# Altium schematic symbol library Zynq-Video-Board-Rev-1.2.SCHLIB: 69 symbols
Pins are listed as number, name and electrical type; pins without a type are passive.

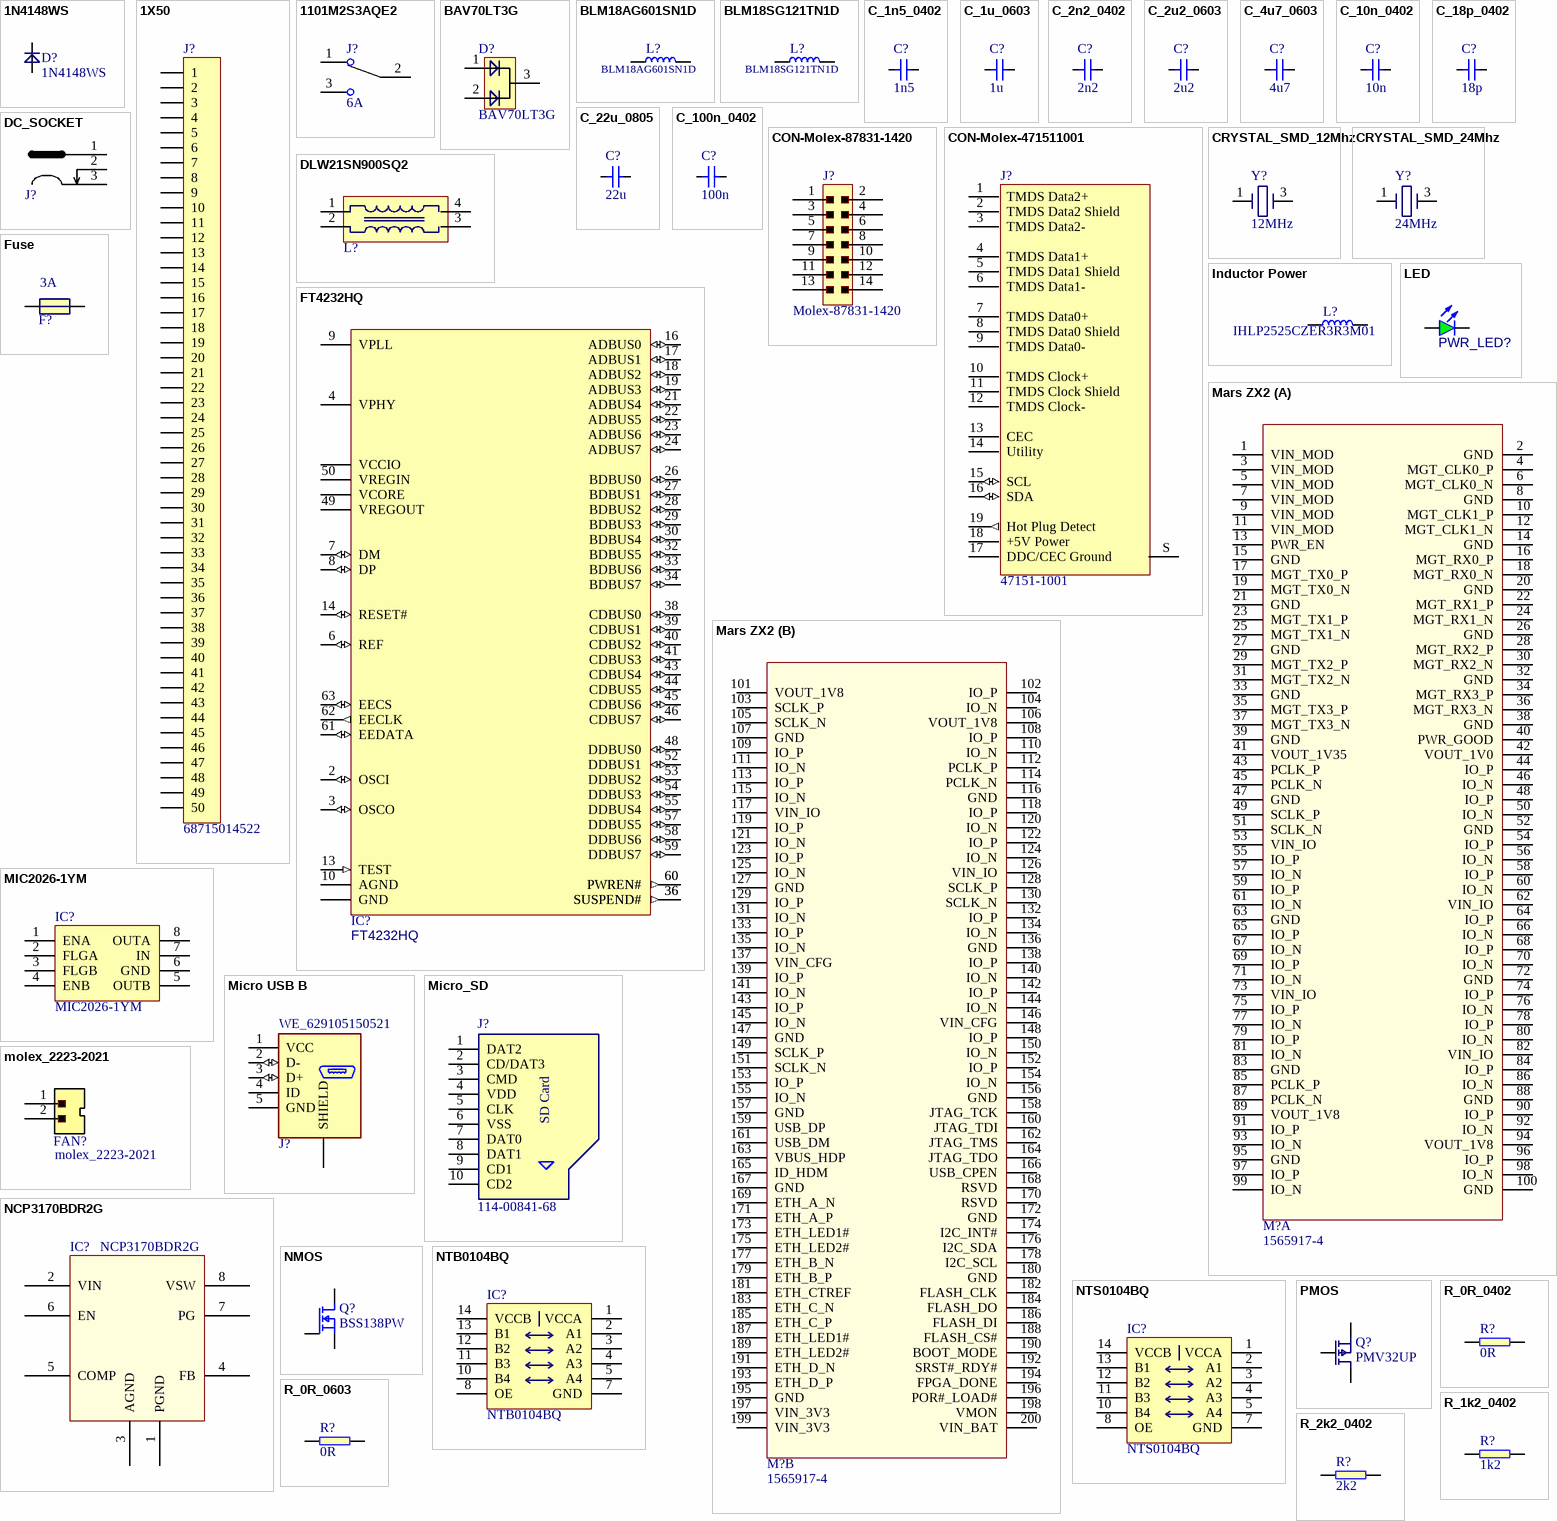
[diagram p0: symbols 1N4148WS to R_2k2_0402]

## 1N4148WS
designator D?
Diode small signal; Manufacturer: ON SEMICONDUCTOR; Part Number: 1N4148WS; Value: 1N4148WS; Part Symbol: 1N4148WS
footprint SOD-323
pins: A, C

## 1X50
designator J?, comment 68715014522
0.50mm SMT ZIF Horizontal Bottom Contact WR-FPC; Part Number: WE-687-150-145-22_FLIPPED; Manufacturer: WURTH ELEKTRONIK; Pins number: 50; Value: 68715014522; Part Symbol: 68715014522
footprint 68715014522_FLIPPED
pins: 1, 2, 3, 4, 5, 6, 7, 8, 9, 10, 11, 12, 13, 14, 15, 16, 17, 18, 19, 20, 21, 22, 23, 24, 25, 26, 27, 28, 29, 30, 31, 32, 33, 34, 35, 36, 37, 38, 39, 40, 41, 42, 43, 44, 45, 46, 47, 48, 49, 50

## 1101M2S3AQE2
designator J?, comment 6A
single-pole double-throw (SPDT) PC mount vertical Miniature Slide Switch with right angle through-hole termination; Part Number: SPDT Switch; Manufacturer: C & K COMPONENTS; Part Symbol: 1101M2S3AQE2; Value: 6A
footprint 1101M2S3AQE2
pins: 1, 2, 3

## BAV70LT3G
designator D?
Dual switching diode, common cathode; Manufacturer: ON SEMICONDUCTOR; PartNumber: BAV70LT3G; Value: BAV70LT3G
footprint SOT-23
pins: 1, 2, 3

## BLM18AG601SN1D
designator L?
FERRITE BEAD, 0.38OHM, 0.5, 0603; Manufacturer: MURATA; Part Symbol: BLM18SG121TN1D; Rated Current: 0.5A; Part Number: BLM18AG601SN1D; Value: BLM18AG601SN1D
footprint 0603
pins: 1, 2

## BLM18SG121TN1D
designator L?
FERRITE BEAD, 0.025OHM, 3A, 0603; Manufacturer: MURATA; Part Number: BLM18SG121TN1D; Value: BLM18SG121TN1D; Rated Current: 3A; Part Symbol: BLM18SG121TN1D
footprint 0603
pins: 1, 2

## C_1n5_0402
designator C?, comment 1n5
MLCC SMT Capacitor 1.5 nF 0402; Part Number: C_1n5_0402; Manufacturer: WURTH ELEKTRONIK; Part Symbol: 885012205007; Voltage: 10V; Tolerance: +-10%; Value: 1n5
footprint 0402
pins: 1, 2
1 alternate drawing of the same symbol

## C_1u_0603
designator C?, comment 1u
MLCC SMT Capacitor 1u 0603; Part Number: C_1u_0603; Manufacturer: MULTICOMP; Part Symbol: MC0603X105M6R3CT; Voltage: 6.3V; Tolerance: +-20%; Value: 1u
footprint 0603
pins: 1, 2
1 alternate drawing of the same symbol

## C_2n2_0402
designator C?, comment 2n2
MLCC SMT Capacitor 2n2 0402; Part Number: C_2n2_0402; Manufacturer: KEMET; Part Symbol: C0402C222J3GACTU; Voltage: 25V; Tolerance: +-5%; Value: 2n2
footprint 0402
pins: 1, 2
1 alternate drawing of the same symbol

## C_2u2_0603
designator C?, comment 2u2
MLCC SMT Capacitor 2u2F 0603; Part Number: C_2u2_0603; Manufacturer: TDK; Part Symbol: C1608X5R1V225K080AC; Voltage: 35V; Tolerance: +-10%; Value: 2u2
footprint 0603
pins: 1, 2
1 alternate drawing of the same symbol

## C_4u7_0603
designator C?, comment 4u7
MLCC SMT Capacitor 4u7 0603; Part Number: C_4u7_0603; Manufacturer: MULTICOMP; Part Symbol: MC0603X475K6R3CT; Voltage: 6.3V; Value: 4u7
footprint 0603
pins: 1, 2
1 alternate drawing of the same symbol

## C_10n_0402
designator C?, comment 10n
MLCC SMT Capacitor 10nF 0402; Part Number: C_10n_0402; Manufacturer: AVX; Part Symbol: 04025G103ZAT2A; Voltage: 50V; Tolerance: +80% -20%; Value: 10n
footprint 0402
pins: 1, 2
1 alternate drawing of the same symbol

## C_18p_0402
designator C?, comment 18p
MLCC SMT Capacitor 18pF 0402; Part Number: C_18p_0402; Manufacturer: KEMET; Part Symbol: C0402C180J5GACAUTO; Voltage: 50V; Tolerance: +-5%; Value: 18p
footprint 0402
pins: 1, 2
1 alternate drawing of the same symbol

## C_22u_0805
designator C?, comment 22u
MLCC SMT Capacitor 22uF 0805; Part Number: C_22u_0805; Manufacturer: MULTICOMP; Part Symbol: MC0805X226M6R3CT; Voltage: 6.3V; Tolerance: +-20%; Value: 22u
footprint 0805
pins: 1, 2
1 alternate drawing of the same symbol

## C_100n_0402
designator C?, comment 100n
MLCC SMT Capacitor 100nF 0402; Part Number: C_100n_0402; Manufacturer: MULTICOMP; Part Symbol: MC0402X104M100CT; Voltage: 10V; Tolerance: +-20%; Value: 100n
footprint 0402
pins: 1, 2
1 alternate drawing of the same symbol

## CON-Molex-87831-1420
designator J?, comment Molex-87831-1420
HEADER, SQUARE PIN, M/GRID, 14WAY; Part Number: CON-Molex-87831-1420; Manufacturer: MOLEX; Pins number: 14; Value: Molex-87831-1420; Part Symbol: 87831-1420
footprint CON-Molex-87831-1420
pins: 1, 2, 3, 4, 5, 6, 7, 8, 9, 10, 11, 12, 13, 14

## CON-Molex-471511001
designator J?, comment 47151-1001
Header right angle HDMI; Part Number: CON-Molex-471511001; Footprint: Molex_HDMI_471511001; Library Reference: CON-Molex-471511001; Pin Count: 19; Value: 47151-1001
footprint Molex_HDMI_471511001
pins: 1 TMDS Data2+, 2 TMDS Data2 Shield, 3 TMDS Data2-, 4 TMDS Data1+, 5 TMDS Data1 Shield, 6 TMDS Data1-, 7 TMDS Data0+, 8 TMDS Data0 Shield, 9 TMDS Data0-, 10 TMDS Clock+, 11 TMDS Clock Shield, 12 TMDS Clock-, 13 CEC, 14 Utility, 15 SCL (io), 16 SDA (io), 17 DDC/CEC Ground (power), 18 +5V Power (power), 19 Hot Plug Detect (out), S SH

## CRYSTAL_SMD_12Mhz
designator Y?, comment 12MHz
Crystal, 12 MHz, SMD, 3.2mm x 2.5mm, 30 ppm, 12 pF; Part Number: CRYSTAL_12MHz_3.2mm x2.5mm; Manufacturer: QANTEK TECHNOLOGY CORPORATION; Part Symbol: QC3CA12.0000F12B23M; Value: 12MHz
footprint QC3CA12
pins: 1, 2 hidden to GND, 3, 4 hidden to GND

## CRYSTAL_SMD_24Mhz
designator Y?, comment 24MHz
Crystal, 24 MHz, SMD, 3.2mm x 2.5mm, 10 ppm, 18 pF, 10 ppm, TSX-3225 Series; Part Number: CRYSTAL_24MHz_3.2mm x2.5mm; Manufacturer: EPSON; Part Symbol: X1E0000210832 TSX-3225 24MHZ; Value: 24MHz
footprint X1E0000210832
pins: 1, 2 hidden to GND, 3, 4 hidden to GND

## DC_SOCKET
designator J?
Part Number: DC_SOCKET; Manufacturer: MULTICOMP; Part Symbol: MJ-179PH; Supplier Part Number 1: 1737246; Supplier 1: Farnell
footprint DC_SOCKET
pins: 1, 2, 3

## DLW21SN900SQ2
designator L?  (value not drawn)
Common mode choke; Manufacturer: MURATA; Part Symbol: DLW21SN900SQ2L; Part Number: DLW21SN900SQ2; Value: DLW21SN900SQ2
footprint DLW21SN900SQ2
pins: 1, 2, 3, 4

## FT4232HQ
designator IC?
FTDI  FT4232HQ-R  Interface Bridges, USB to UART, MPSSE, 1.62 V, 1.98 V, QFN, 64 Pins, -40 °C; Value: FT4232HQ; Manufacturer: FTDI; Part Symbol: FT4232HQ-R; Part Number: FT4232HQ
footprint FT2232HQ
pins: 2 OSCI (io), 3 OSCO (io), 4 VPHY (power), 6 REF (io), 7 DM (io), 8 DP (io), 9 VPLL (power), 10 AGND (power), 13 TEST (in), 14 RESET# (io), 16 ADBUS0 (io), 17 ADBUS1 (io), 18 ADBUS2 (io), 19 ADBUS3 (io), 21 ADBUS4 (io), 22 ADBUS5 (io), 23 ADBUS6 (io), 24 ADBUS7 (io), 26 BDBUS0 (io), 27 BDBUS1 (io), 28 BDBUS2 (io), 29 BDBUS3 (io), 30 BDBUS4 (io), 32 BDBUS5 (io), 33 BDBUS6 (io), 34 BDBUS7 (io), 36 SUSPEND# (out), 36 SUSPEND# (out), 38 CDBUS0 (io), 39 CDBUS1 (io), 40 CDBUS2 (io), 41 CDBUS3 (io), 43 CDBUS4 (io), 44 CDBUS5 (io), 45 CDBUS6 (io), 46 CDBUS7 (io), 48 DDBUS0 (io), 49 VREGOUT (power), 50 VREGIN (power), 52 DDBUS1 (io), 53 DDBUS2 (io), 54 DDBUS3 (io), 55 DDBUS4 (io), 57 DDBUS5 (io), 58 DDBUS6 (io), 59 DDBUS7 (io), 60 PWREN# (out), 60 PWREN# (out), 61 EEDATA (io), 62 EECLK (out), 63 EECS (io), GND (power), VCCIO (power), VCORE (power)

## Fuse
designator F?, comment 3A
Fuse, Surface Mount,  SinglFuse SF-0603FP Series, 3 A, 32 VDC, Fast Acting, 0603; Part Number: SF-0603FP300-2; Manufacturer: BOURNS; Value: 3A; Part Symbol: SF-0603FP300-2
footprint 0603
pins: 1, 2

## Inductor Power
designator L?, comment IHLP2525CZER3R3M01
3.3 µH, ± 20%, Shielded, 0.02 ohm, 8 A; Manufacturer: VISHAY; Rated Current: 6A; Inductance: 3.3uH; Part Number: IHLP2525CZER3R3M01; Value: IHLP2525CZER3R3M01; Part Symbol: IHLP2525CZER3R3M01
footprint IHLP-2525CZ-01
pins: 1, 2

## LED
designator PWR_LED?, comment KPT-1608SGC  (value not drawn)
LED Green 0603 case; Part Number: LED_G; Manufacturer: KINGBRIGHT; Value: KPT-1608SGC; Part Symbol: KPT-1608SGC
footprint LED0603
pins: A, K

## Mars ZX2
designator M?, comment 1565917-4
SODIMM Connector 200_1V8; Part Number: Mars ZX2; Manufacturer: TE connectivity; Value: 1565917-4; Part Symbol: 1565917-4
footprint TE_1565917-4
part A pins: 1 VIN_MOD, 2 GND, 3 VIN_MOD, 4 MGT_CLK0_P, 5 VIN_MOD, 6 MGT_CLK0_N, 7 VIN_MOD, 8 GND, 9 VIN_MOD, 10 MGT_CLK1_P, 11 VIN_MOD, 12 MGT_CLK1_N, 13 PWR_EN, 14 GND, 15 GND, 16 MGT_RX0_P, 17 MGT_TX0_P, 18 MGT_RX0_N, 19 MGT_TX0_N, 20 GND, 21 GND, 22 MGT_RX1_P, 23 MGT_TX1_P, 24 MGT_RX1_N, 25 MGT_TX1_N, 26 GND, 27 GND, 28 MGT_RX2_P, 29 MGT_TX2_P, 30 MGT_RX2_N, 31 MGT_TX2_N, 32 GND, 33 GND, 34 MGT_RX3_P, 35 MGT_TX3_P, 36 MGT_RX3_N, 37 MGT_TX3_N, 38 GND, 39 GND, 40 PWR_GOOD, 41 VOUT_1V35, 42 VOUT_1V0, 43 PCLK_P, 44 IO_P, 45 PCLK_N, 46 IO_N, 47 GND, 48 IO_P, 49 SCLK_P, 50 IO_N, 51 SCLK_N, 52 GND, 53 VIN_IO, 54 IO_P, 55 IO_P, 56 IO_N, 57 IO_N, 58 IO_P, 59 IO_P, 60 IO_N, 61 IO_N, 62 VIN_IO, 63 GND, 64 IO_P, 65 IO_P, 66 IO_N, 67 IO_N, 68 IO_P, 69 IO_P, 70 IO_N, 71 IO_N, 72 GND, 73 VIN_IO, 74 IO_P, 75 IO_P, 76 IO_N, 77 IO_N, 78 IO_P, 79 IO_P, 80 IO_N, 81 IO_N, 82 VIN_IO, 83 GND, 84 IO_P, 85 PCLK_P, 86 IO_N, 87 PCLK_N, 88 GND, 89 VOUT_1V8, 90 IO_P, 91 IO_P, 92 IO_N, 93 IO_N, 94 VOUT_1V8, 95 GND, 96 IO_P, 97 IO_P, 98 IO_N, 99 IO_N, 100 GND
part B pins: 101 VOUT_1V8, 102 IO_P, 103 SCLK_P, 104 IO_N, 105 SCLK_N, 106 VOUT_1V8, 107 GND, 108 IO_P, 109 IO_P, 110 IO_N, 111 IO_N, 112 PCLK_P, 113 IO_P, 114 PCLK_N, 115 IO_N, 116 GND, 117 VIN_IO, 118 IO_P, 119 IO_P, 120 IO_N, 121 IO_N, 122 IO_P, 123 IO_P, 124 IO_N, 125 IO_N, 126 VIN_IO, 127 GND, 128 SCLK_P, 129 IO_P, 130 SCLK_N, 131 IO_N, 132 IO_P, 133 IO_P, 134 IO_N, 135 IO_N, 136 GND, 137 VIN_CFG, 138 IO_P, 139 IO_P, 140 IO_N, 141 IO_N, 142 IO_P, 143 IO_P, 144 IO_N, 145 IO_N, 146 VIN_CFG, 147 GND, 148 IO_P, 149 SCLK_P, 150 IO_N, 151 SCLK_N, 152 IO_P, 153 IO_P, 154 IO_N, 155 IO_N, 156 GND, 157 GND, 158 JTAG_TCK, 159 USB_DP, 160 JTAG_TDI, 161 USB_DM, 162 JTAG_TMS, 163 VBUS_HDP, 164 JTAG_TDO, 165 ID_HDM, 166 USB_CPEN, 167 GND, 168 RSVD, 169 ETH_A_N, 170 RSVD, 171 ETH_A_P, 172 GND, 173 ETH_LED1#, 174 I2C_INT#, 175 ETH_LED2#, 176 I2C_SDA, 177 ETH_B_N, 178 I2C_SCL, 179 ETH_B_P, 180 GND, 181 ETH_CTREF, 182 FLASH_CLK, 183 ETH_C_N, 184 FLASH_DO, 185 ETH_C_P, 186 FLASH_DI, 187 ETH_LED1#, 188 FLASH_CS#, 189 ETH_LED2#, 190 BOOT_MODE, 191 ETH_D_N, 192 SRST#_RDY#, 193 ETH_D_P, 194 FPGA_DONE, 195 GND, 196 POR#_LOAD#, 197 VIN_3V3, 198 VMON, 199 VIN_3V3, 200 VIN_BAT

## MIC2026-1YM
designator IC?
Power Load Distribution Switch IC, Active High, 2 Outputs, 5.5 V in, 900 mA, 0.09 ohm, SOIC-8; Manufacturer: Microchip; Part Number: MIC2026-1YM; Value: MIC2026-1YM; Part Symbol: MIC2026-1YM
footprint SOIC-8
pins: 1 ENA, 2 FLGA, 3 FLGB, 4 ENB, 5 OUTB, 6 GND, 7 IN, 8 OUTA

## Micro USB B
designator J?  Part Number: WE_629105150521
Micro USB B; Manufacturer: WURTH ELEKTRONIK; Part Symbol: 629105150521
footprint WE_629105150521
pins: 1 VCC (power), 2 D- (io), 3 D+ (io), 4 ID, 5 GND (power), S SHIELD

## Micro_SD
designator J?, comment 114-00841-68
Micro SD card holder; Part Number: AMP-114-00841-68; Manufacturer: AMPHENOL COMMERCIAL PRODUCTS; Value: 114-00841-68; Part Symbol: 114-00841-68
footprint 114-00841-68
pins: 1 DAT2, 2 CD/DAT3, 3 CMD, 4 VDD, 5 CLK, 6 VSS, 7 DAT0, 8 DAT1, 9 CD1, 10 CD2
text: SD Card

## molex_2223-2021
designator FAN?, comment Part Number: molex_2223-2021  (hidden comment: MX-22-23-2021)
Pinhead connector with key; Manufacturer: Molex; Part Symbol: 022232021 A-6373-02A222; Pins number: 2; Value: MX-22-23-2021
footprint molex_2223-2021
pins: 1, 2

## NCP3170BDR2G
designator IC?
DC-DC buck (step-down), reg., 4.5V-18Vin, Vou 1.25V-5V/3A, 1 MHz, SOIC-8; Manufacturer: ON Semicnductor; Part Number: NCP3170BDR2G; Value: NCP3170BDR2G; Part Symbol: NCP3170BDR2G
footprint SOIC-8
pins: 1 PGND, 2 VIN, 3 AGND, 4 FB, 5 COMP, 6 EN, 7 PG, 8 VSW

## NMOS
designator Q?, comment BSS138PW
MOSFET, N CH, 60V, 0.2A; Manufacturer: NXP; Value: BSS138PW; Part Number: BSS138PW; Part Symbol: BSS138PW
footprint SOT-23 (SOT23, 3-Leads, Body 2.90x2.45mm, Pitch 0.95mm, IPC Medium Density)
footprint SC70-3
pins: 1 G, 2 S, 3 D

## NTB0104BQ
designator IC?
4 bit voltage level translator - no pullups; Manufacturer: NXP; Part Number: NTB0104BQ; Value: NTB0104BQ; Part Symbol: NTB0104BQ
footprint DHVQFN14
pins: 1 VCCA, 2 A1, 3 A2, 4 A3, 5 A4, 7 GND, 8 OE, 10 B4, 11 B3, 12 B2, 13 B1, 14 VCCB

## NTS0104BQ
designator IC?
4 bit voltage level translator - pullups; Manufacturer: NXP; Part Number: NTS0104BQ; Value: NTS0104BQ; Part Symbol: NTS0104BQ
footprint DHVQFN14
pins: 1 VCCA, 2 A1, 3 A2, 4 A3, 5 A4, 7 GND, 8 OE, 10 B4, 11 B3, 12 B2, 13 B1, 14 VCCB

## PMOS
designator Q?, comment PMV32UP
P CH, 20V, 4A; Manufacturer: NXP; Part Number: PMV32UP; Value: PMV32UP; Part Symbol: PMV32UP
footprint SOT-23
pins: 1 G, 2 S, 3 D

## R_0R_0402
designator R?, comment 0R
SMT Resistor 0R 0402; Part Number: R_0R_0402; Manufacturer: MULTICOMP; Part Symbol: MCMR04X000 PTL; Value: 0R
footprint 0402
pins: 1, 2

## R_0R_0603
designator R?, comment 0R
SMT Resistor 0R 0603; Part Number: R_0R_0603; Manufacturer: BOURNS; Part Symbol: CR0603-J/-000ELF; Tolerance: 5%; Value: 0R
footprint 0603
pins: 1, 2

## R_1k2_0402
designator R?, comment 1k2
SMT Resistor 1k2 0402; Part Number: R_1k2_0402; Manufacturer: PANASONIC; Part Symbol: ERJ2RKF1201X; Tolerance: 1%; Value: 1k2
footprint 0402
pins: 1, 2

## R_2k2_0402
designator R?, comment 2k2
SMT Resistor 2k2 0402; Part Number: R_2k2_0402; Manufacturer: MULTICOMP; Part Symbol: MCWR04X2201FTL; Tolerance: 5%; Value: 2k2
footprint 0402
pins: 1, 2

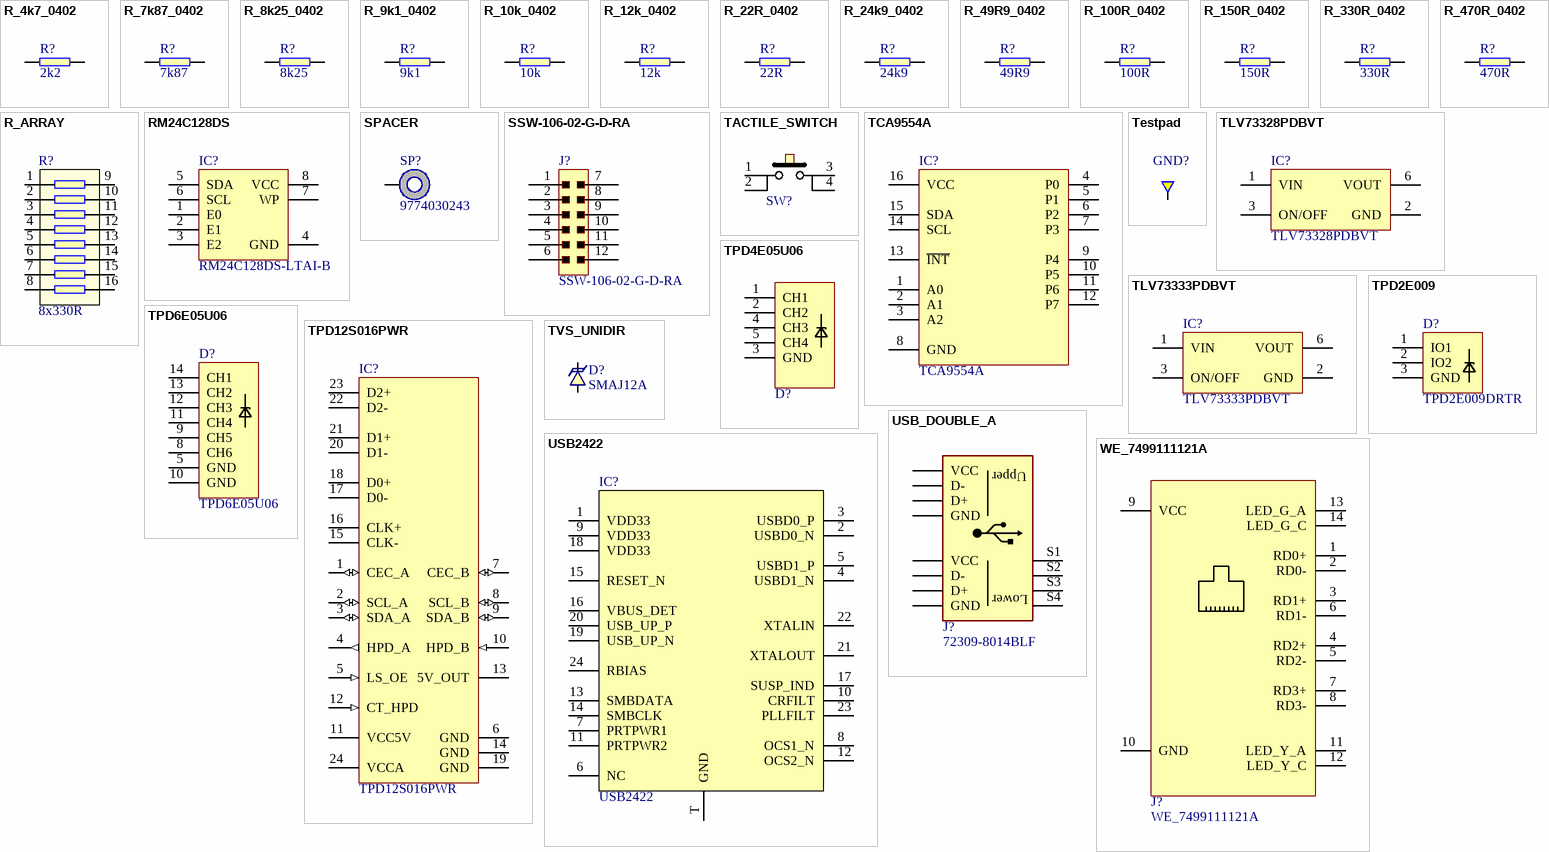
[diagram p1: symbols R_4k7_0402 to WE_7499111121A]

## R_4k7_0402
designator R?, comment 2k2
SMT Resistor 4k7 0402; Part Number: R_4k7_0402; Manufacturer: PANASONIC ELECTRONIC COMPONENTS; Part Symbol: ERJ2GEJ472X; Tolerance: 5%; Value: 2k2
footprint 0402
pins: 1, 2

## R_7k87_0402
designator R?, comment 7k87
SMT Resistor 7k87 0402; Part Number: R_7k87_0402; Manufacturer: MULTICOMP; Part Symbol: MCMR04X7871FTL; Tolerance: 1%; Value: 7k87
footprint 0402
pins: 1, 2

## R_8k25_0402
designator R?, comment 8k25
SMT Resistor 8k25 0402; Part Number: R_8k25_0402; Manufacturer: PANASONIC; Part Symbol: ERJ2RKF8251X; Tolerance: 1%; Value: 8k25
footprint 0402
pins: 1, 2

## R_9k1_0402
designator R?, comment 9k1
SMT Resistor 9k1 0402; Part Number: R_9k1_0402; Manufacturer: YAGEO; Part Symbol: RC0402FR-079K1L; Tolerance: 1%; Value: 9k1
footprint 0402
pins: 1, 2

## R_10k_0402
designator R?, comment 10k
SMT Resistor 10k 0402; Part Number: R_10k_0402; Manufacturer: MULTICOMP; Part Symbol: MCMR04X1002FTL; Tolerance: 1%; Value: 10k
footprint 0402
pins: 1, 2

## R_12k_0402
designator R?, comment 12k
SMT Resistor 12k 0402; Part Number: R_12k_0402; Manufacturer: VISHAY; Part Symbol: CRCW040212K0FKEDHP; Tolerance: 1%; Value: 12k
footprint 0402
pins: 1, 2

## R_22R_0402
designator R?, comment 22R
SMT Resistor 22R 0402; Part Number: R_22R_0402; Manufacturer: VISHAY; Part Symbol: CRCW040222R0FKED; Tolerance: 1%; Value: 22R
footprint 0402
pins: 1, 2

## R_24k9_0402
designator R?, comment 24k9
SMT Resistor 24k9 0402; Part Number: R_24k9_0402; Manufacturer: WALSIN; Part Symbol: WR04X2492FTL; Tolerance: 1%; Value: 24k9
footprint 0402
pins: 1, 2

## R_49R9_0402
designator R?, comment 49R9
SMT Resistor 49R9 0402; Part Number: R_49R9_0402; Manufacturer: VISHAY; Part Symbol: CRCW040249R9FKED; Tolerance: 1%; Value: 49R9
footprint 0402
pins: 1, 2

## R_100R_0402
designator R?, comment 100R
SMT Resistor 100R 0402; Part Number: R_100R_0402; Manufacturer: BOURNS; Part Symbol: CR0402-FX-1000GLF; Tolerance: 1%; Value: 100R
footprint 0402
pins: 1, 2

## R_150R_0402
designator R?, comment 150R
SMT Resistor 150R_0402; Part Number: R_150R_0402; Manufacturer: VISHAY; Part Symbol: CRCW0402150RFKED; Tolerance: 1%; Value: 150R
footprint 0402
pins: 1, 2

## R_330R_0402
designator R?, comment 330R
SMT Resistor 330R 0402; Part Number: R_330R_0402; Manufacturer: MULTICOMP; Part Symbol: MCMR04X3300FTL; Tolerance: 1%; Value: 330R
footprint 0402
pins: 1, 2

## R_470R_0402
designator R?, comment 470R
SMT Resistor 470R 0402; Part Number: R_470R_0402; Manufacturer: VISHAY; Part Symbol: CRCW0402470RFKED; Tolerance: 1%; Value: 470R
footprint 0402
pins: 1, 2

## R_ARRAY
designator R?, comment 8x330R
SMD Resistors Array 0402; Part Number: Resistor Array_8x330R_0402; Manufacturer: PANASONIC; Part Symbol: EXB2HV331JV; Tolerance: 5%; Value: 8x330R
footprint R_ARRAY_0402
pins: 1, 2, 3, 4, 5, 6, 7, 8, 9, 10, 11, 12, 13, 14, 15, 16

## RM24C128DS
designator IC?, comment RM24C128DS-LTAI-B
EEPROM with UID and OTP registers.; Manufacturer: Adesto; Part Number: RM24C128DS; Value: RM24C128DS-LTAI-B; Part Symbol: RM24C128DS-LTAI-B
footprint TSSOP-8
pins: 1 E0, 2 E1, 3 E2, 4 GND, 5 SDA, 6 SCL, 7 WP, 8 VCC

## SPACER
designator SP?, comment 9774030243
M2x3; Part Number: WE_9774030243; Manufacturer: WURTH ELEKTRONIK; Value: 9774030243; Part Symbol: 9774030243
footprint M2-3mm
pins: 1

## SSW-106-02-G-D-RA
designator J?
Board-To-Board Connector, Right Angle, 2.54 mm, 12 Contacts, Receptacle, SSW Series, Through Hole; Manufacturer: SAMTEC; Pins number: 12; Value: SSW-106-02-G-D-RA; Part Symbol: SSW-106-02-G-D-RA; Part Number: SSW-106-02-G-D-RA
footprint Model Name (Footprint not found)
footprint SSW-106-02-G-D-RA
pins: 1, 2, 3, 4, 5, 6, 7, 8, 9, 10, 11, 12

## TACTILE_SWITCH
designator SW?, comment B3S-100X  (value not drawn)
Manufacturer: OMRON; Part Symbol: B3S-1002; Part Number: B3S-100X; Value: B3S-100X
footprint B3S-100X
pins: 1, 2, 3, 4

## TCA9554A
designator IC?
Remote 8bit I2C SMBus I/O expander; Manufacturer: Texas Instruments; Part Number: TCA9554A; Value: TCA9554A; Part Symbol: TCA9554A
footprint DBQ0016A
pins: 1 A0, 2 A1, 3 A2, 4 P0, 5 P1, 6 P2, 7 P3, 8 GND, 9 P4, 10 P5, 11 P6, 12 P7, 13 ~{INT}, 14 SCL, 15 SDA, 16 VCC

## Testpad
designator GND?  (no BOM)
Testpad, round, 2mm; Part Number: TP-R-2
footprint TP-R-2
pins: 1

## TLV73328PDBVT
designator IC?
Capacitor-Free, 300-mA, Low-Dropout Regulator with Foldback Current Limit for Portable Devices; Manufacturer: TEXAS INSTRUMENTS; Part Number: TLV73328PDBVT; Value: TLV73328PDBVT; Part Symbol: TLV73328PDBVT
footprint SOT23-5N
pins: 1 VIN, 2 GND, 3 ON/OFF, 6 VOUT

## TLV73333PDBVT
designator IC?
Capacitor-Free, 300-mA, Low-Dropout Regulator with Foldback Current Limit for Portable Devices; Manufacturer: TEXAS INSTRUMENTS; Part Symbol: TLV73328PDBVT; Part Number: TLV73333PDBVT; Value: TLV73333PDBVT
footprint SOT23-5N
pins: 1 VIN, 2 GND, 3 ON/OFF, 6 VOUT

## TPD2E009
designator D?, comment TPD2E009DRTR
ESD Suppressors 2-CH; Manufacturer: Texas Instruments; Part Number: TPD2E009DRTR; Value: TPD2E009DRTR; Part Symbol: TPD2E009DRTR
footprint SOT-3
pins: 1 IO1, 2 IO2, 3 GND

## TPD4E05U06
designator D?  (value not drawn)
ESD Suppressors 4-CH; Part Number: TPD4E05U06_PASS; Manufacturer: Texas Instruments; Part Symbol: TPD4E05U06DQAR; Value: TPD4E05U06
footprint TPD4E05U06_PASS
pins: 1 CH1, 2 CH2, 3 GND, 4 CH3, 5 CH4

## TPD6E05U06
designator D?
ESD Suppressors 6-CH Pass through layout; Part Number: TPD6E05U06_PASS; Manufacturer: Texas Instruments; Part Symbol: TPD6E05U06RVZR; Value: TPD6E05U06
footprint TPD6E05U06_PASS
pins: 5 GND, 8 CH6, 9 CH5, 10 GND, 11 CH4, 12 CH3, 13 CH2, 14 CH1

## TPD12S016PWR
designator IC?
TPD12S016PWR is a single-chip High Definition Multimedia Interface (HDMI); Manufacturer: TEXAS INSTRUMENTS; Part Number: TPD12S016PWR; Value: TPD12S016PWR; Part Symbol: TPD12S016PWR
footprint TSOP65P640X120-24L
pins: 1 CEC_A (io), 2 SCL_A (io), 3 SDA_A (io), 4 HPD_A (out), 5 LS_OE (in), 6 GND (power), 7 CEC_B (io), 8 SCL_B (io), 9 SDA_B (io), 10 HPD_B (in), 11 VCC5V (power), 12 CT_HPD (in), 13 5V_OUT (power), 14 GND (power), 15 CLK-, 16 CLK+, 17 D0-, 18 D0+, 19 GND (power), 20 D1-, 21 D1+, 22 D2-, 23 D2+, 24 VCCA (power)

## TVS_UNIDIR
designator D?, comment SMAJ12A
DIODE, TVS, 12V, 400W; Manufacturer: BOURNS; Part Number: SMAJ12A; Value: SMAJ12A; Part Symbol: SMAJ12A
footprint DO-214AA
pins: A, C

## USB2422
designator IC?
The USB2422-I/MJ is a 2-port USB 2.0 high-speed Hub Controller IC with two downstream ports for embedded USB solutions.; Manufacturer: MICROCHIP; Part Number: USB2422; Value: USB2422; Part Symbol: USB2422-I/MJ
footprint 24-S4QFN-4
footprint QFN24
pins: 1 VDD33, 2 USBD0_N, 3 USBD0_P, 4 USBD1_N, 5 USBD1_P, 6 NC, 7 PRTPWR1, 8 OCS1_N, 9 VDD33, 10 CRFILT, 11 PRTPWR2, 12 OCS2_N, 13 SMBDATA, 14 SMBCLK, 15 RESET_N, 16 VBUS_DET, 17 SUSP_IND, 18 VDD33, 19 USB_UP_N, 20 USB_UP_P, 21 XTALOUT, 22 XTALIN, 23 PLLFILT, 24 RBIAS, T GND

## USB_DOUBLE_A
designator J?  Part Symbol: 72309-8014BLF
8-way 2-port USB 2.0 type-A Stacked Connector with gold-plated copper alloy contacts.; Part Number: USB_DOUBLE_A; Manufacturer: AMPHENOL ICC (FCI)
footprint T_MMMC_896-43-008-90-000000 (USB 2.0 double row, Type A)
pins: L1 VCC (power), L2 D-, L3 D+, L4 GND (power), S1, S2, S3, S4, U1 VCC (power), U2 D-, U3 D+, U4 GND (power)
text: Upper; Lower

## WE_7499111121A
designator J?, comment Part Number: WE_7499111121A  (hidden comment: 7499111121A)
CONN MAGJACK 1PORT 1000 BASE-T; Manufacturer: WURTH ELEKTRONIK; Value: 7499111121A; Part Symbol: 7499111121A
footprint WE_7499111121A
pins: 1 RD0+, 2 RD0-, 3 RD1+, 4 RD2+, 5 RD2-, 6 RD1-, 7 RD3+, 8 RD3-, 9 VCC, 10 GND, 11 LED_Y_A, 12 LED_Y_C, 13 LED_G_A, 14 LED_G_C